# EAGLE library part PS2505L-4 (library MDB_HOME)
DESCRIPTION The PS2505-1, -4 and PS2505L-1, -4 are optically coupled isolators containing GaAs light emitting diodes and an NPN silicon phototransistor. The PS2505-1, -4 are in a plastic DIP (Dual In-line Package) and the PS2505L-1, -4 are lead bending type (Gullwing) for surface mount. FEATURES • AC input response • High isolation voltage (BV = 5 000 Vr.m.s.) • High collector to emitter voltage (VCEO = 80 V) • High-speed switching (tr = 3 µs TYP., tf = 5 µs TYP.) • Ordering number of tape product: PS2505L-1-F3: 2 000 pcs/reel • Safety standards • UL approved: No. E72422
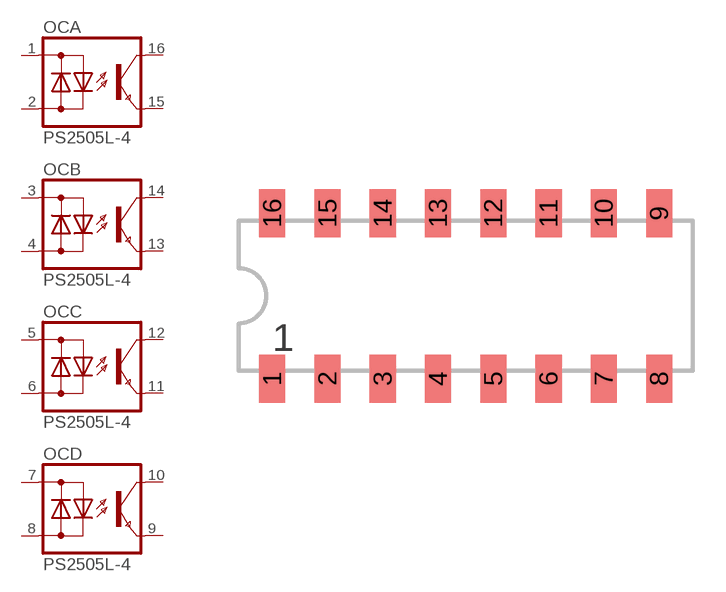
[diagram p65: symbol with the pads of DIP16; footprint DIP16]

Designator prefix OC; gates A=OK-DL B=OK-DL C=OK-DL D=OK-DL

## PS2505L-4  [DIP16]
1  A:AC1  pas
2  A:AC2  pas
3  B:AC1  pas
4  B:AC2  pas
5  C:AC1  pas
6  C:AC2  pas
7  D:AC1  pas
8  D:AC2  pas
9  D:E  pas
10  D:C  pas
11  C:E  pas
12  C:C  pas
13  B:E  pas
14  B:C  pas
15  A:E  pas
16  A:C  pas

## Footprint DIP16 (pad centres in mm)
SMD DIL16 dual in line package
smd 1.2 x 2.2: 1 -8.89,-3.8; 2 -6.35,-3.8; 3 -3.81,-3.8; 4 -1.27,-3.8; 5 1.27,-3.8; 6 3.81,-3.8; 7 6.35,-3.8; 8 8.89,-3.8; 9 8.89,3.8; 10 6.35,3.8; 11 3.81,3.8; 12 1.27,3.8; 13 -1.27,3.8; 14 -3.81,3.8; 15 -6.35,3.8; 16 -8.89,3.8